# EAGLE library part L293DD (library HB_SMD_L293DD)
L293DD Series Push - Pull Quad Channel Driver with Diodes - SOIC-20
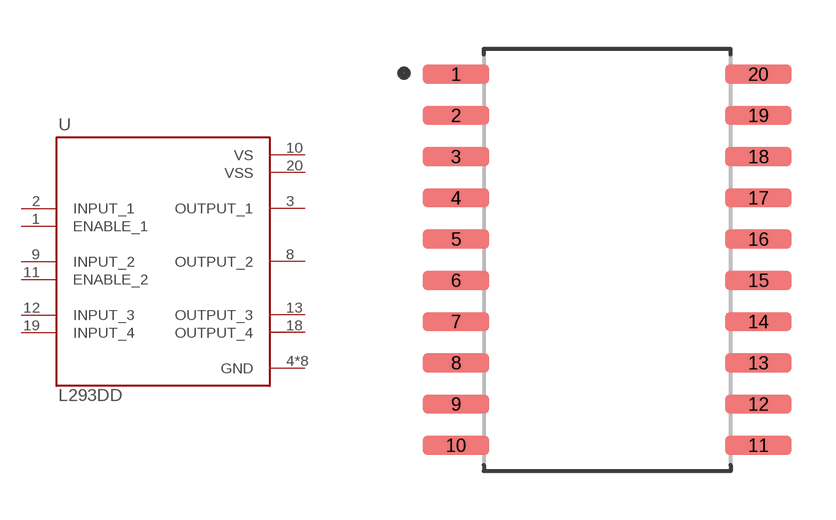
[diagram p0: symbol with the pads of SOIC127P1032X265-20N; footprint SOIC127P1032X265-20N]

Designator prefix U

## L293DD (Check_prices: https://www.snapeda.com/parts/L293DD/STMicroelectronics/view-part/?ref=eda; Description: Bipolar Motor Driver Parallel 20-SOIC; DigiKey_Part_Number: 497-1390-5-ND; MF: STMicroelectronics; MP: L293DD; Package: SOIC-20 STMicroelectronics; Purchase-URL: https://www.snapeda.com/api/url_track_click_mouser/?unipart_id=48952&manufacturer=STMicroelectronics&part_name=L293DD&search_term=None; SnapEDA_Link: https://www.snapeda.com/parts/L293DD/STMicroelectronics/view-part/?ref=snap)  [SOIC127P1032X265-20N]
1  ENABLE_1  in
2  INPUT_1  in
3  OUTPUT_1  out
4  GND  pwr
5  GND  pwr
6  GND  pwr
7  GND  pwr
8  OUTPUT_2  out
9  INPUT_2  in
10  VS  pwr
11  ENABLE_2  in
12  INPUT_3  in
13  OUTPUT_3  out
14  GND  pwr
15  GND  pwr
16  GND  pwr
17  GND  pwr
18  OUTPUT_4  out
19  INPUT_4  in
20  VSS  pwr

## Footprint SOIC127P1032X265-20N (pad centres in mm)
smd 2.05 x 0.6: 1 -4.655,5.715; 2 -4.655,4.445; 3 -4.655,3.175; 4 -4.655,1.905; 5 -4.655,0.635; 6 -4.655,-0.635; 7 -4.655,-1.905; 8 -4.655,-3.175; 9 -4.655,-4.445; 10 -4.655,-5.715; 11 4.655,-5.715; 12 4.655,-4.445; 13 4.655,-3.175; 14 4.655,-1.905; 15 4.655,-0.635; 16 4.655,0.635; 17 4.655,1.905; 18 4.655,3.175; 19 4.655,4.445; 20 4.655,5.715